# Altium schematic symbol library Cyberdeck.SchLib: 178 symbols (part 3 of 5)
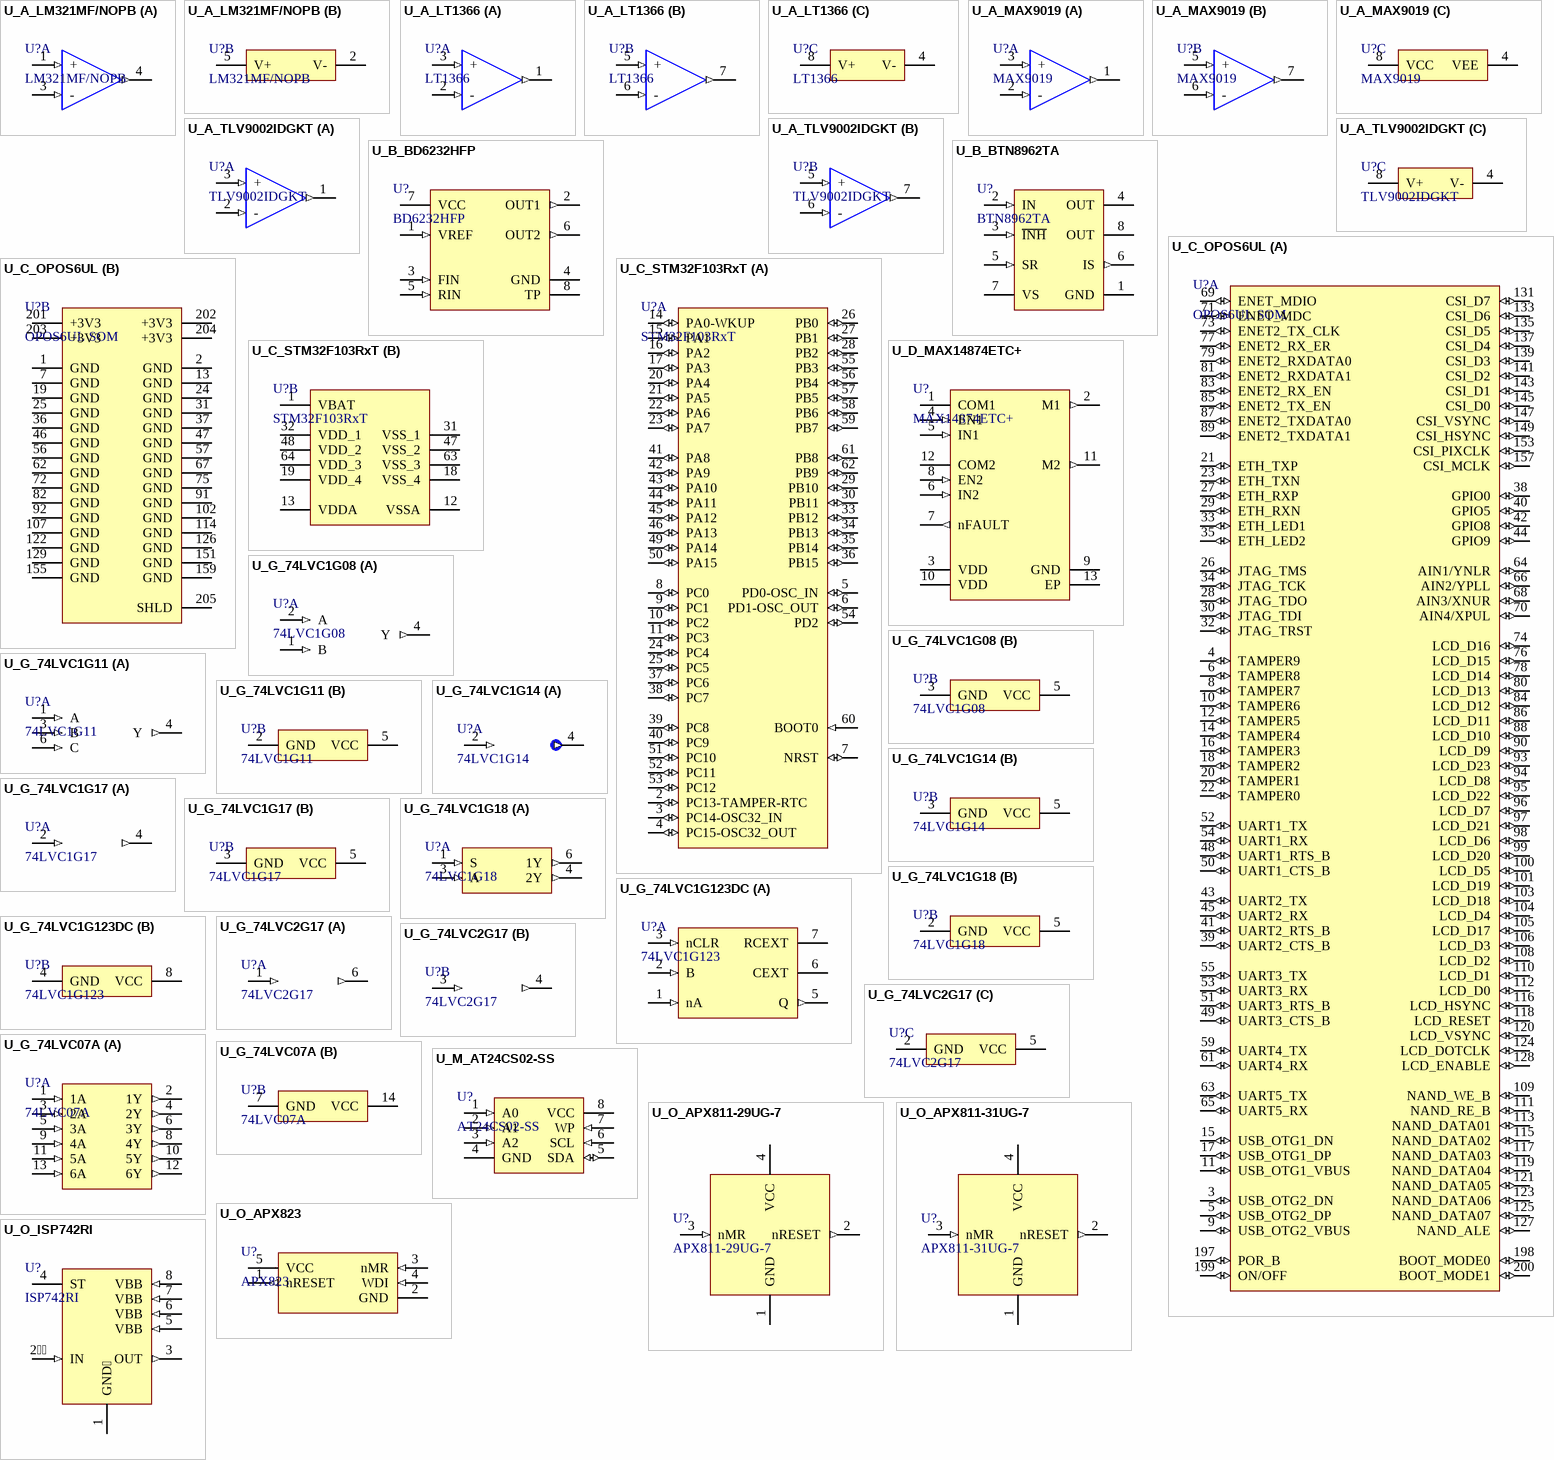
[diagram p7: symbols U_A_LM321MF/NOPB to U_O_ISP742RI]

## U_G_74LVC1G17
designator U?, comment 74LVC1G17
IC BUFFER SCHMITT TRIGGER 5TSOP; Manufacturer: NXP Semiconductors; Manufacturer Part Number: 74LVC2G17GW,125; ComponentLink1URL: https://datasheet.ciiva.com/17290/74lvc1g17-17290989.pdf; ComponentLink1Description: https://datasheet.ciiva.com/17290/74lvc1g17-17290989.pdf; ComponentLink2URL: https://datasheet.ciiva.com/6623/74lvc1g17-6623199.pdf; ComponentLink2Description: https://datasheet.ciiva.com/6623/74lvc1g17-6623199.pdf; ComponentLink3URL: https://datasheet.ciiva.com/1833/74lvc1g17-1833130.pdf; ComponentLink3Description: https://datasheet.ciiva.com/1833/74lvc1g17-1833130.pdf; ComponentLink4URL: https://datasheet.ciiva.com/1833/74lvc1g17-1833128.pdf; ComponentLink4Description: https://datasheet.ciiva.com/1833/74lvc1g17-1833128.pdf; ComponentLink5URL: https://datasheet.ciiva.com/1833/74lvc1g17-1833129.pdf; ComponentLink5Description: https://datasheet.ciiva.com/1833/74lvc1g17-1833129.pdf; Supplier 1: Digi-Key; Supplier Part Number 1: 1727-4218-1-ND; Case/Package: TSSOP; ComponentLink6URL: https://datasheet.ciiva.com/16463/74lvc2g17-16463432.pdf; ComponentLink6Description: https://datasheet.ciiva.com/16463/74lvc2g17-16463432.pdf; ComponentLink7URL: https://datasheet.ciiva.com/6623/74lvc2g17-6623158.pdf; ComponentLink7Description: https://datasheet.ciiva.com/6623/74lvc2g17-6623158.pdf; ComponentLink8URL: https://datasheet.ciiva.com/1832/74lvc2g17-1832730.pdf; ComponentLink8Description: https://datasheet.ciiva.com/1832/74lvc2g17-1832730.pdf; ComponentLink9URL: https://datasheet.ciiva.com/1832/74lvc2g17-1832731.pdf; ComponentLink9Description: https://datasheet.ciiva.com/1832/74lvc2g17-1832731.pdf; ComponentLink10URL: https://datasheet.ciiva.com/1832/74lvc2g17-1832732.pdf; ComponentLink10Description: https://datasheet.ciiva.com/1832/74lvc2g17-1832732.pdf; ComponentLink11URL: https://datasheet.ciiva.com/16199/74lvc2g17-16199742.pdf; ComponentLink11Description: https://datasheet.ciiva.com/16199/74lvc2g17-16199742.pdf
footprint SOT353-1
part A pins: 2 A (in), 4 Y (out)
part B pins: 3 GND (power), 5 VCC (power)

## U_G_74LVC1G18
designator U?, comment 74LVC1G18
IC DEMULTIPLEXER 3-ST 6TSOP; Manufacturer: NXP Semiconductors; Manufacturer Part Number: 74LVC1G18GV,125; Supplier 1: Digi-Key; Supplier Part Number 1: 1727-6972-1-ND; Case/Package: TSOP; ComponentLink1URL: https://datasheet.ciiva.com/4807/74lvc1g18-188390-4807217.pdf; ComponentLink1Description: https://datasheet.ciiva.com/4807/74lvc1g18-188390-4807217.pdf; ComponentLink2URL: https://datasheet.ciiva.com/46390/1841955-46390534.pdf; ComponentLink2Description: https://datasheet.ciiva.com/46390/1841955-46390534.pdf; ComponentLink3URL: https://datasheet.ciiva.com/1890/74lvc1g18-1890772.pdf; ComponentLink3Description: https://datasheet.ciiva.com/1890/74lvc1g18-1890772.pdf; ComponentLink4URL: https://datasheet.ciiva.com/1890/74lvc1g18-1890773.pdf; ComponentLink4Description: https://datasheet.ciiva.com/1890/74lvc1g18-1890773.pdf; ComponentLink5URL: https://datasheet.ciiva.com/1890/74lvc1g18-1890774.pdf; ComponentLink5Description: https://datasheet.ciiva.com/1890/74lvc1g18-1890774.pdf; ComponentLink6URL: https://datasheet.ciiva.com/8252/74lvc1g18-8252269.pdf; ComponentLink6Description: https://datasheet.ciiva.com/8252/74lvc1g18-8252269.pdf; ComponentLink7URL: https://datasheet.ciiva.com/17392/74lvc1g18-17392229.pdf; ComponentLink7Description: https://datasheet.ciiva.com/17392/74lvc1g18-17392229.pdf
footprint SOT457
part A pins: 1 S (in), 3 A (in), 4 2Y (out), 6 1Y (out)
part B pins: 2 GND (power), 5 VCC (power)

## U_G_74LVC1G123DC
designator U?, comment 74LVC1G123
Manufacturer: NXP Semiconductors; Manufacturer Part Number: 74LVC1G123DC,125; Supplier 1: Digi-Key; Supplier Part Number 1: 1727-2066-1-ND; Case/Package: VSSOP; ComponentLink1URL: https://datasheet.ciiva.com/4232/806074lvc1g123-4232470.pdf; ComponentLink1Description: https://datasheet.ciiva.com/4232/806074lvc1g123-4232470.pdf; ComponentLink2URL: https://datasheet.ciiva.com/8243/74lvc1g123-8243222.pdf; ComponentLink2Description: https://datasheet.ciiva.com/8243/74lvc1g123-8243222.pdf; ComponentLink3URL: https://datasheet.ciiva.com/46397/1846125-46397703.pdf; ComponentLink3Description: https://datasheet.ciiva.com/46397/1846125-46397703.pdf
footprint SOT765-1 (TSSOP, 8-Leads, Body 2.00x2.30mm, Pitch 0.50mm, IPC Medium Density)
part A pins: 1 nA (in), 2 B (in), 3 nCLR (in), 5 Q (out), 6 CEXT, 7 RCEXT
part B pins: 4 GND (power), 8 VCC (power)

## U_G_74LVC2G17
designator U?, comment 74LVC2G17
IC BUFF SCHMT TRG DL N-INV 6TSOP; Manufacturer: NXP Semiconductors; Manufacturer Part Number: 74LVC2G17GW,125; ComponentLink1URL: https://datasheet.ciiva.com/1837/74lvc2g17-1837122.pdf; ComponentLink1Description: https://datasheet.ciiva.com/1837/74lvc2g17-1837122.pdf; ComponentLink2URL: https://datasheet.ciiva.com/17291/74lvc2g17-17291020.pdf; ComponentLink2Description: https://datasheet.ciiva.com/17291/74lvc2g17-17291020.pdf; ComponentLink3URL: https://datasheet.ciiva.com/16289/74lvc2g17-16289887.pdf; ComponentLink3Description: https://datasheet.ciiva.com/16289/74lvc2g17-16289887.pdf; ComponentLink4URL: https://datasheet.ciiva.com/26930/getdatasheetpartid-214923-26930485.pdf; ComponentLink4Description: https://datasheet.ciiva.com/26930/getdatasheetpartid-214923-26930485.pdf; ComponentLink5URL: https://datasheet.ciiva.com/1837/74lvc2g17-1837123.pdf; ComponentLink5Description: https://datasheet.ciiva.com/1837/74lvc2g17-1837123.pdf; ComponentLink6URL: https://datasheet.ciiva.com/1837/74lvc2g17-1837124.pdf; ComponentLink6Description: https://datasheet.ciiva.com/1837/74lvc2g17-1837124.pdf; ComponentLink7URL: https://datasheet.ciiva.com/16463/74lvc2g17-16463432.pdf; ComponentLink7Description: https://datasheet.ciiva.com/16463/74lvc2g17-16463432.pdf; ComponentLink8URL: https://datasheet.ciiva.com/6623/74lvc2g17-6623158.pdf; ComponentLink8Description: https://datasheet.ciiva.com/6623/74lvc2g17-6623158.pdf; ComponentLink9URL: https://datasheet.ciiva.com/1832/74lvc2g17-1832730.pdf; ComponentLink9Description: https://datasheet.ciiva.com/1832/74lvc2g17-1832730.pdf; ComponentLink10URL: https://datasheet.ciiva.com/1832/74lvc2g17-1832731.pdf; ComponentLink10Description: https://datasheet.ciiva.com/1832/74lvc2g17-1832731.pdf; ComponentLink11URL: https://datasheet.ciiva.com/1832/74lvc2g17-1832732.pdf; ComponentLink11Description: https://datasheet.ciiva.com/1832/74lvc2g17-1832732.pdf; ComponentLink12URL: https://datasheet.ciiva.com/16199/74lvc2g17-16199742.pdf; ComponentLink12Description: https://datasheet.ciiva.com/16199/74lvc2g17-16199742.pdf; Supplier 1: Digi-Key; Supplier Part Number 1: 1727-4218-1-ND; Case/Package: TSSOP
footprint SOT363 (SOT23, 6-Leads, Body 2.05x2.13mm, Pitch 0.65mm, IPC Medium Density)
part A pins: 1 A (in), 6 1Y (out)
part B pins: 3 2A (in), 4 2Y (out)
part C pins: 2 GND (power), 5 VCC (power)

## U_G_74LVC07A
designator U?, comment 74LVC07A
IC HEX BUFFER OD 14TSSOP; Manufacturer: Diodes; Manufacturer Part Number: 74LVC07AT14-13; Supplier 1: Digi-Key; Supplier Part Number 1: 74LVC07AT14-13DICT-ND; Case/Package: TSSOP; ComponentLink1URL: https://datasheet.ciiva.com/30474/0900766b8115c2f6-30474846.pdf; ComponentLink1Description: https://datasheet.ciiva.com/30474/0900766b8115c2f6-30474846.pdf; ComponentLink2URL: https://datasheet.ciiva.com/1837/74lvc07a-1837131.pdf; ComponentLink2Description: https://datasheet.ciiva.com/1837/74lvc07a-1837131.pdf; ComponentLink3URL: https://datasheet.ciiva.com/16406/74lvc07a-16406619.pdf; ComponentLink3Description: https://datasheet.ciiva.com/16406/74lvc07a-16406619.pdf; ComponentLink4URL: https://datasheet.ciiva.com/1837/74lvc07a-1837132.pdf; ComponentLink4Description: https://datasheet.ciiva.com/1837/74lvc07a-1837132.pdf; ComponentLink5URL: https://datasheet.ciiva.com/1837/74lvc07a-1837133.pdf; ComponentLink5Description: https://datasheet.ciiva.com/1837/74lvc07a-1837133.pdf; ComponentLink6URL: https://datasheet.ciiva.com/8305/74lvc07a-8305743.pdf; ComponentLink6Description: https://datasheet.ciiva.com/8305/74lvc07a-8305743.pdf; ComponentLink7URL: https://datasheet.ciiva.com/12255/74lvc07a-12255247.pdf; ComponentLink7Description: https://datasheet.ciiva.com/12255/74lvc07a-12255247.pdf
footprint TSSOP-14 (TSOP, 14-Leads, Body 5.00x4.40mm, Pitch 0.65mm, IPC Medium Density)
part A pins: 1 1A (in), 2 1Y (out), 3 2A (in), 4 2Y (out), 5 3A (in), 6 3Y (out), 8 4Y (out), 9 4A (in), 10 5Y (out), 11 5A (in), 12 6Y (out), 13 6A (in)
part B pins: 7 GND (power), 14 VCC (power)

## U_M_AT24CS02-SS
designator U?, comment AT24CS02-SS
IC EEPROM 2KBIT 1MHZ 8SOIC; Manufacturer: Microchip / Atmel; Manufacturer Part Number: AT24CS02-SSHM-T; Supplier 1: Digi-Key; Supplier Part Number 1: AT24CS02-SSHM-TCT-ND; Case/Package: SOIC; ComponentLink1URL: https://datasheet.ciiva.com/15123/getdatasheetpartid-655244-15123992.pdf; ComponentLink1Description: https://datasheet.ciiva.com/15123/getdatasheetpartid-655244-15123992.pdf; ComponentLink2URL: https://datasheet.ciiva.com/6614/atmel-8815-seeprom-at24cs01-02-datasheet-6614647.pdf; ComponentLink2Description: https://datasheet.ciiva.com/6614/atmel-8815-seeprom-at24cs01-02-datasheet-6614647.pdf; ComponentLink3URL: https://datasheet.ciiva.com/6614/atmel-8815-seeprom-at24cs01-02-datasheet-6614649.pdf; ComponentLink3Description: https://datasheet.ciiva.com/6614/atmel-8815-seeprom-at24cs01-02-datasheet-6614649.pdf; ComponentLink4URL: https://datasheet.ciiva.com/6614/atmel-8815-seeprom-at24cs01-02-datasheet-6614651.pdf; ComponentLink4Description: https://datasheet.ciiva.com/6614/atmel-8815-seeprom-at24cs01-02-datasheet-6614651.pdf
footprint SO8 (SOIC8, SO8, PG-DSO8-44, R-PDSO8-G8)
pins: 1 A0 (in), 2 A1 (in), 3 A2 (in), 4 GND (power), 5 SDA (io), 6 SCL (in), 7 WP (in), 8 VCC (power)

## U_O_APX811-29UG-7
designator U?, comment APX811-29UG-7
IC SUPERVISOR 2.93V SOT143-4; Manufacturer: Diodes; Max Supply Voltage: 5.5V; Min Supply Voltage: 1.1V; Max Power Dissipation: 320mW; Watchdog Timer: No; Max Reset Threshold Voltage: 2.98V; Min Reset Threshold Voltage: 2.89V; Number of Voltages Monitored: 1; Reset: Active Low; Reset Timeout: 140ms; Undervoltage Threshold: 4.7V; Operating Supply Current: 30uA; Reset Delay Time: 200ms; Supplier 1: Digi-Key; Supplier Part Number 1: APX811-29UG-7DICT-ND; Manufacturer Part Number: APX811-29UG-7; Stock 1: 2017; Pricing 1: 1=0.41, 10=0.348, 100=0.2596, 500=0.20394, 1000=0.15759 (USD); Mount: Surface Mount; Case/Package: SOT-143; Number of Pins: 4; Min Operating Temperature: -40°C; Max Operating Temperature: 85°C; Package Quantity: 3000; Packaging: Tape and Reel; Type: Simple Reset/Power-On Reset; Threshold Voltage: 2.93V; Number of Elements: 1; Power Dissipation: 320mW; Number of Monitored Inputs: 1; Length: 3mm; Height: 1mm; Width: 1.4mm; Radiation Hardening: No; REACH SVHC: No SVHC; Lead Free: Lead Free; ComponentLink1URL: https://datasheet.ciiva.com/15106/getdatasheetpartid-363215-15106144.pdf; ComponentLink1Description: https://datasheet.ciiva.com/15106/getdatasheetpartid-363215-15106144.pdf; ComponentLink2URL: https://datasheet.ciiva.com/1968/apx811-812-1968427.pdf; ComponentLink2Description: https://datasheet.ciiva.com/1968/apx811-812-1968427.pdf; ComponentLink3URL: https://datasheet.ciiva.com/1968/apx811-812-1968428.pdf; ComponentLink3Description: https://datasheet.ciiva.com/1968/apx811-812-1968428.pdf; ComponentLink4URL: https://datasheet.ciiva.com/17224/apx811-812-17224732.pdf; ComponentLink4Description: https://datasheet.ciiva.com/17224/apx811-812-17224732.pdf; ComponentLink5URL: https://datasheet.ciiva.com/1968/apx811-812-1968429.pdf; ComponentLink5Description: https://datasheet.ciiva.com/1968/apx811-812-1968429.pdf
footprint APX811/812 (SOT143, 4-Leads, Body 2.90x2.37mm, Pitch 1.90mm, IPC Medium Density)
pins: 1 GND (power), 2 nRESET (out), 3 nMR (in), 4 VCC (power)

## U_O_APX811-31UG-7
designator U?, comment APX811-31UG-7
IC SUPERVISOR 3.13V SOT143-4; Manufacturer: Diodes; Supplier 1: Digi-Key; Supplier Part Number 1: APX811-31UG-7DICT-ND; Manufacturer Part Number: APX811-31UG-7; Case/Package: SOT-143; ComponentLink1URL: https://datasheet.ciiva.com/15106/getdatasheetpartid-661729-15106637.pdf; ComponentLink1Description: https://datasheet.ciiva.com/15106/getdatasheetpartid-661729-15106637.pdf; ComponentLink2URL: https://datasheet.ciiva.com/17224/apx811-812-17224734.pdf; ComponentLink2Description: https://datasheet.ciiva.com/17224/apx811-812-17224734.pdf
footprint APX811/812 (SOT143, 4-Leads, Body 2.90x2.37mm, Pitch 1.90mm, IPC Medium Density)
pins: 1 GND (power), 2 nRESET (out), 3 nMR (in), 4 VCC (power)

## U_O_APX823
designator U?, comment APX823
Processor Supervisor 3.08V 0V to 5.8V 5-Pin SOT-25 T/R; Manufacturer 1: Diodes; Manufacturer Part Number 1: APX823-31W5G-7; Supplier 1: Digi-Key; Supplier Part Number 1: APX823-31W5GDICT-ND; Case/Package: SOT-25; ComponentLink1URL: https://datasheet.ciiva.com/15106/getdatasheetpartid-685370-15106671.pdf; ComponentLink1Description: https://datasheet.ciiva.com/15106/getdatasheetpartid-685370-15106671.pdf; ComponentLink2URL: https://datasheet.ciiva.com/26886/apx823-31w5g-7-26886348.pdf; ComponentLink2Description: https://datasheet.ciiva.com/26886/apx823-31w5g-7-26886348.pdf
footprint SOT-23-5
pins: 1 nRESET (out), 2 GND (power), 3 nMR (in), 4 WDI (in), 5 VCC (power)

## U_O_ISP742RI
designator U?, comment ISP742RI
Power Switch Hi Side 0.4A 8-Pin DSO; Manufacturer 1: Infineon; Manufacturer Part Number 1: ISP742RIFUMA1; Supplier 1: Digi-Key; Supplier Part Number 1: ISP742RIFUMA1CT-ND; ComponentLink1URL: http://components.arrow.com/part/dataview/52120040S9006902N2051; ComponentLink1Description: http://components.arrow.com/part/dataview/52120040S9006902N2051; ComponentLink2URL: http://components.arrow.com/part/dataview/0323_00171198; ComponentLink2Description: http://components.arrow.com/part/dataview/0323_00171198; ComponentLink3URL: http://www.mouser.com/ds/2/196/Infineon-ISP742RI-DS-v01_01-en-785766.pdf; ComponentLink3Description: http://www.mouser.com/ds/2/196/Infineon-ISP742RI-DS-v01_01-en-785766.pdf; ComponentLink4URL: http://www.infineon.com/dgdl/Infineon-ISP742RI-DS-v01_01-en.pdf?fileId=db3a304412b407950112b429555440bf&ack=t; ComponentLink4Description: http://www.infineon.com/dgdl/Infineon-ISP742RI-DS-v01_01-en.pdf?fileId=db3a304412b407950112b429555440bf&ack=t
footprint PG-DSO-8-24
footprint SO8 (SOIC, 8-Leads, Body 4.90x3.90mm, Pitch 1.27mm, IPC Medium Density)
pins: 1 GND (power), 2 IN (in), 3 OUT (out), 4 ST, 5 VBB (in), 6 VBB (in), 7 VBB (in), 8 VBB (in)

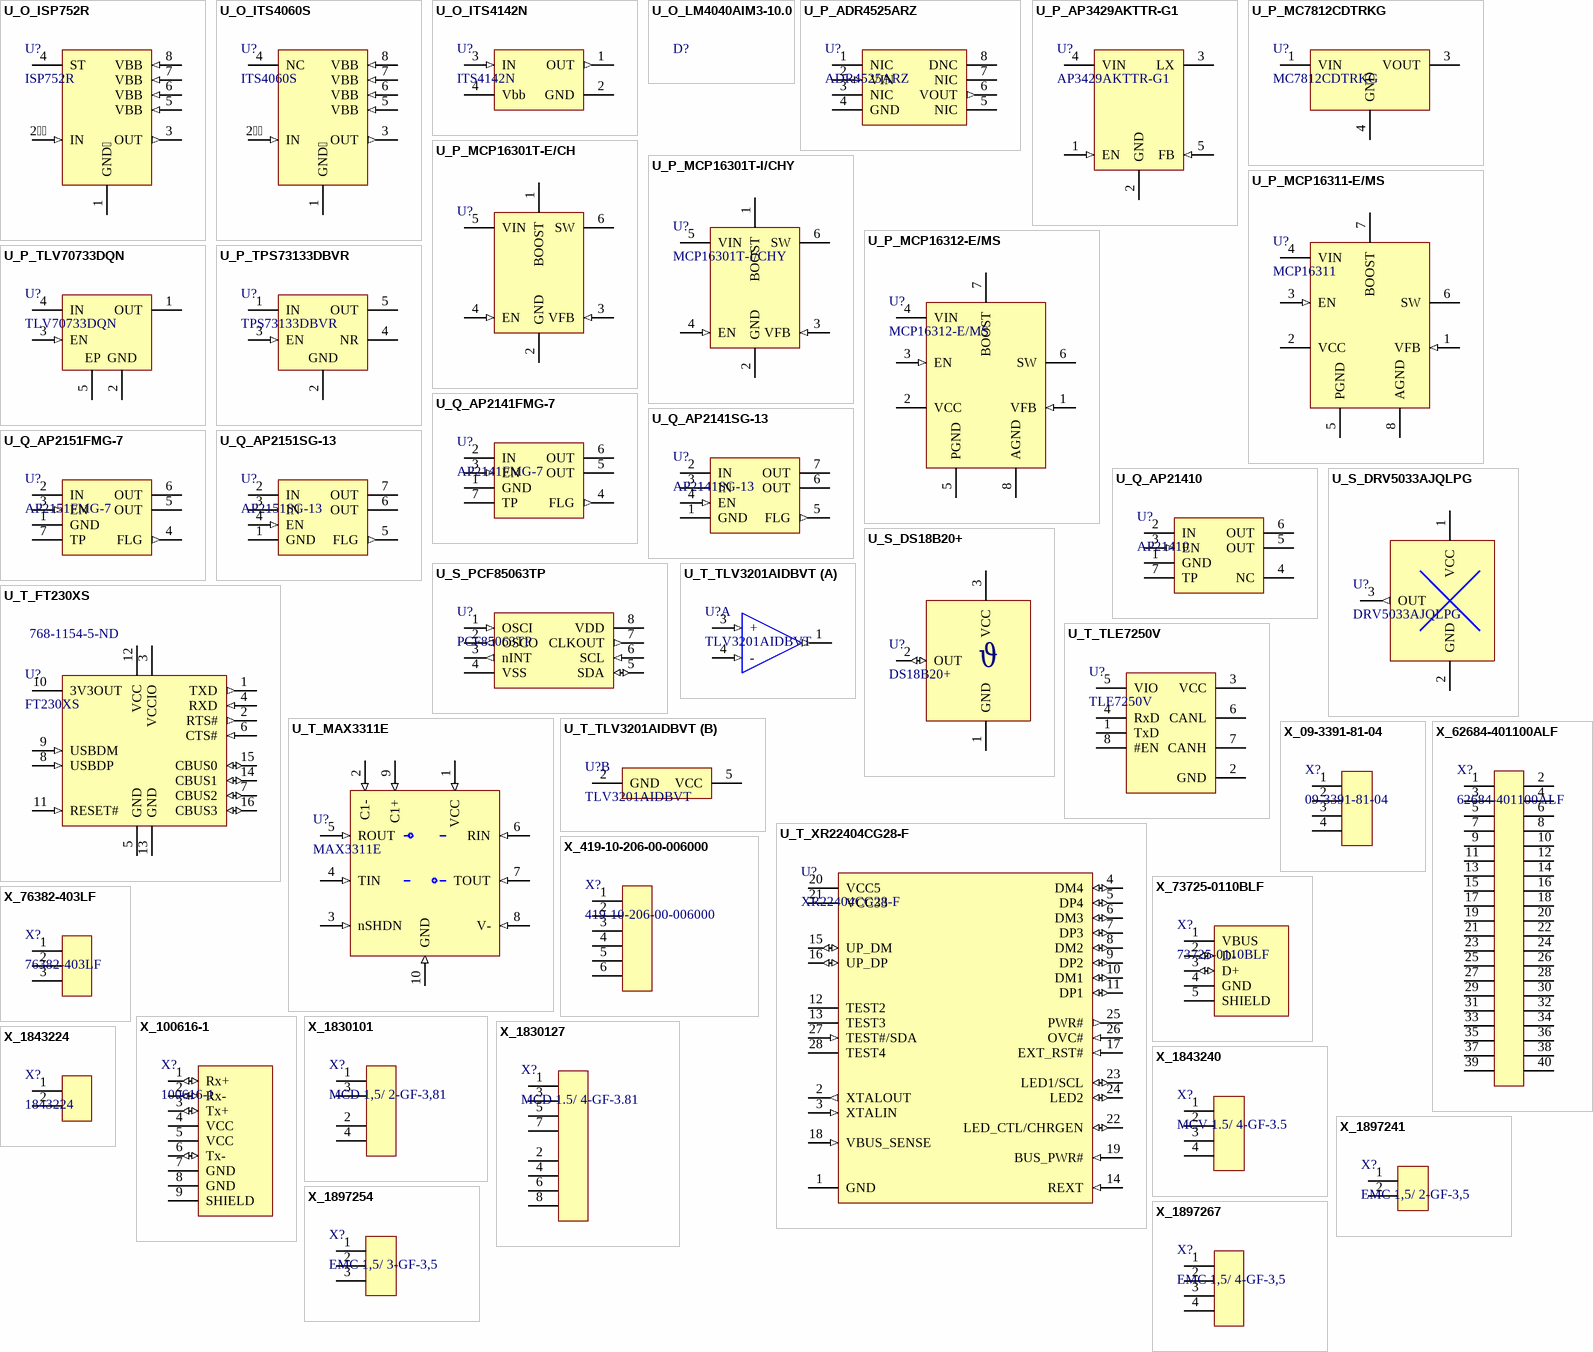
[diagram p3: symbols U_O_ISP752R to X_1897267]

## U_O_ISP752R
designator U?, comment ISP752R
Power Switch Hi Side 1.3A 8-Pin DSO; Manufacturer 1: Infineon; Manufacturer Part Number 1: ISP752RFUMA1; Supplier 1: Digi-Key; Supplier Part Number 1: ISP752RFUMA1CT-ND; ComponentLink1URL: http://components.arrow.com/part/dataview/0323_00171199; ComponentLink1Description: http://components.arrow.com/part/dataview/0323_00171199; ComponentLink2URL: http://www.mouser.com/ds/2/196/Infineon-ISP752R-DS-v01_01-en-785748.pdf; ComponentLink2Description: http://www.mouser.com/ds/2/196/Infineon-ISP752R-DS-v01_01-en-785748.pdf; ComponentLink3URL: https://www.infineon.com/dgdl/Infineon-ISP752R-DS-v01_01-en.pdf?folderId=db3a304412b407950112b408e8c90004&fileId=db3a304412b407950112b4295d1040cb&ack=t; ComponentLink3Description: https://www.infineon.com/dgdl/Infineon-ISP752R-DS-v01_01-en.pdf?folderId=db3a304412b407950112b408e8c90004&fileId=db3a304412b407950112b4295d1040cb&ack=t; ComponentLink4URL: http://www.infineon.com/dgdl/Infineon-ISP752R-DS-v01_01-en.pdf?fileId=db3a304412b407950112b4295d1040cb&ack=t; ComponentLink4Description: http://www.infineon.com/dgdl/Infineon-ISP752R-DS-v01_01-en.pdf?fileId=db3a304412b407950112b4295d1040cb&ack=t
footprint PG-DSO-8-24
footprint SO8 (SOIC, 8-Leads, Body 4.90x3.90mm, Pitch 1.27mm, IPC Medium Density)
pins: 1 GND (power), 2 IN (in), 3 OUT (out), 4 ST, 5 VBB (in), 6 VBB (in), 7 VBB (in), 8 VBB (in)

## U_O_ITS4060S
designator U?, comment ITS4060S
Power Switch Hi Side 2.6A 8-Pin DSO T/R; Manufacturer 1: Infineon; Manufacturer Part Number 1: ITS4060SSJNXUMA1; Supplier 1: Digi-Key; Supplier Part Number 1: ITS4060SSJNXUMA1CT-ND; Case/Package: SOIC; ComponentLink1URL: http://www.mouser.com/ds/2/196/Infineon-ITS4060S_SJ_N_01092012S-DS-v01_00-en-785694.pdf; ComponentLink1Description: http://www.mouser.com/ds/2/196/Infineon-ITS4060S_SJ_N_01092012S-DS-v01_00-en-785694.pdf; ComponentLink2URL: http://www.infineon.com/dgdl/Infineon-ITS4060S_SJ_N_01092012S-DS-v01_00-en.pdf?fileId=db3a304339dcf4b1013a0137d230573b&sd=t; ComponentLink2Description: http://www.infineon.com/dgdl/Infineon-ITS4060S_SJ_N_01092012S-DS-v01_00-en.pdf?fileId=db3a304339dcf4b1013a0137d230573b&sd=t
footprint PG-DSO-8-24
footprint SO8 (SOIC, 8-Leads, Body 4.90x3.90mm, Pitch 1.27mm, IPC Medium Density)
pins: 1 GND (power), 2 IN (in), 3 OUT (out), 4 NC, 5 VBB (in), 6 VBB (in), 7 VBB (in), 8 VBB (in)

## U_O_ITS4142N
designator U?, comment ITS4142N
Power Switch Hi Side 1.4A 4-Pin(3+Tab) SOT-223; Manufacturer 1: Infineon; Manufacturer Part Number 1: ITS4142NHUMA1; Supplier 1: Digi-Key; Supplier Part Number 1: ITS4142NHUMA1CT-ND; Case/Package: SOT-223; ComponentLink1URL: https://datasheet.ciiva.com/26851/getdatasheetpartid-730739-26851660.pdf; ComponentLink1Description: https://datasheet.ciiva.com/26851/getdatasheetpartid-730739-26851660.pdf
footprint SOT223 (SOT223, 4-Leads, Body 6.50x7.00mm (avg), Pitch 2.30mm, IPC Medium Density)
pins: 1 OUT (out), 2 GND (power), 3 IN (in), 4 Vbb (power)

## U_O_LM4040AIM3-10.0
designator D?, comment LM4040AIM3-10.0  (value not drawn)
IC VREF SHUNT 10V SOT23-3; Manufacturer 1: TI National Semiconductor; Max DC Current: 620mA; Supplier 1: Digi-Key; Supplier Part Number 1: LM4040AIM3-10.0CT-ND; Manufacturer Part Number 1: LM4040AIM3-10.0; Case/Package: SOT-23; ComponentLink1URL: https://datasheet.ciiva.com/15148/getdatasheetpartid-132462-15148708.pdf; ComponentLink1Description: https://datasheet.ciiva.com/15148/getdatasheetpartid-132462-15148708.pdf; ComponentLink2URL: https://datasheet.ciiva.com/8060/8006-8060198.pdf; ComponentLink2Description: https://datasheet.ciiva.com/8060/8006-8060198.pdf; ComponentLink3URL: https://datasheet.ciiva.com/14198/lm4040-n-q1-14198668.pdf; ComponentLink3Description: https://datasheet.ciiva.com/14198/lm4040-n-q1-14198668.pdf; ComponentLink4URL: https://datasheet.ciiva.com/6593/lm4040-n-6593493.pdf; ComponentLink4Description: https://datasheet.ciiva.com/6593/lm4040-n-6593493.pdf; ComponentLink5URL: https://datasheet.ciiva.com/6593/lm4040-n-6593494.pdf; ComponentLink5Description: https://datasheet.ciiva.com/6593/lm4040-n-6593494.pdf
footprint SOT-23 (SOT23, 3-Leads, Body 2.90x2.45mm, Pitch 0.95mm, IPC Medium Density)

## U_P_ADR4525ARZ
designator U?, comment ADR4525ARZ
V REF, 15VIN, 2.5V, +/-0.04%, 8SOIC; Manufacturer: Analog Devices; Max Input Voltage: 15V; Max Output Current: 10mA; Temperature Coefficient: 4ppm/°C; Nominal Supply Current: 950uA; Tolerance: 0.04%; Min Input Voltage: 3V; Reference Type: Series; Output Type: Fixed; Supplier 1: Digi-Key; Supplier Part Number 1: ADR4525ARZ-ND; Manufacturer Part Number: ADR4525ARZ; RoHS: Yes; Stock 1: 11633; Pricing 1: 1 = 6.49000, 98 = 5.51255, 196 = 4.77750, 588 = 4.06701, 1078 = 3.43000 (USD); Case/Package: R; Number of Pins: 8; Min Operating Temperature: -40°C; Max Operating Temperature: 125°C; Output Voltage: 2.5V; Package Quantity: 98; Packaging: Rail/Tube; Operating Supply Current: 950uA; Min Output Voltage: 2.5V; Output Current: 10mA; Reference Voltage: 2.5V; Max Output Voltage: 2.5V; Length: 5mm; Height: 1.5mm; Width: 4mm; Radiation Hardening: No; REACH SVHC: No SVHC; Lead Free: Contains Lead; ComponentLink1URL: http://www.farnell.com/datasheets/1599556.pdf; ComponentLink1Description: http://www.farnell.com/datasheets/1599556.pdf; ComponentLink2URL: http://www.analog.com/static/imported-files/data_sheets/ADR4520_4525_4530_4533_4540_4550.pdf; ComponentLink2Description: http://www.analog.com/static/imported-files/data_sheets/ADR4520_4525_4530_4533_4540_4550.pdf; ComponentLink3URL: https://www.analog.com/media/en/technical-documentation/data-sheets/ADR4520_4525_4530_4533_4540_4550.pdf; ComponentLink3Description: https://www.analog.com/media/en/technical-documentation/data-sheets/ADR4520_4525_4530_4533_4540_4550.pdf; ComponentLink4URL: http://www.produktinfo.conrad.com/datenblaetter/1200000-1299999/001250885-da-01-en-IC_VREF_SERIES_PRE_ADR4525ARZ_SOIC_8_ADI.pdf; ComponentLink4Description: http://www.produktinfo.conrad.com/datenblaetter/1200000-1299999/001250885-da-01-en-IC_VREF_SERIES_PRE_ADR4525ARZ_SOIC_8_ADI.pdf
footprint SO8 (SOIC8, SO8, PG-DSO8-44, R-PDSO8-G8)
pins: 1 NIC, 2 VIN (in), 3 NIC, 4 GND (power), 5 NIC, 6 VOUT (out), 7 NIC, 8 DNC

## U_P_AP3429AKTTR-G1
designator U?, comment AP3429AKTTR-G1
Buck Switching Regulator IC Positive Adjustable 0.6V 1 Output 2A SOT-23-5 Thin, TSOT-23-5; Manufacturer: Diodes; Supplier 1: Digi-Key; Supplier Part Number 1: AP3429AKTTR-G1DICT-ND; Manufacturer Part Number: AP3429AKTTR-G1; ComponentLink1Description: https://www.diodes.com/assets/Datasheets/AP3429.pdf; ComponentLink1URL: https://www.diodes.com/assets/Datasheets/AP3429.pdf
footprint SOT23-5L (SOT23-5L ST)
footprint SOT-23-5
pins: 1 EN (in), 2 GND (power), 3 LX (power), 4 VIN (power), 5 FB (in)

## U_P_MC7812CDTRKG
designator U?, comment MC7812CDTRKG
IC REG LDO 12V 1A DPAK; Manufacturer: ON Semiconductor; Supplier 1: Digi-Key; Supplier Part Number 1: MC7812CDTRKGOSCT-ND; Case/Package: TO-252-3; ComponentLink1URL: https://datasheet.ciiva.com/2060/mc7800-d-2060457.pdf; ComponentLink1Description: https://datasheet.ciiva.com/2060/mc7800-d-2060457.pdf; ComponentLink2URL: https://datasheet.ciiva.com/26179/mc7800-d-26179659.pdf; ComponentLink2Description: https://datasheet.ciiva.com/26179/mc7800-d-26179659.pdf; ComponentLink3URL: https://datasheet.ciiva.com/2060/mc7800-d-2060456.pdf; ComponentLink3Description: https://datasheet.ciiva.com/2060/mc7800-d-2060456.pdf; ComponentLink4URL: https://datasheet.ciiva.com/8230/mc7800-d-8230645.pdf; ComponentLink4Description: https://datasheet.ciiva.com/8230/mc7800-d-8230645.pdf; ComponentLink5URL: https://datasheet.ciiva.com/2060/mc7800-d-2060455.pdf; ComponentLink5Description: https://datasheet.ciiva.com/2060/mc7800-d-2060455.pdf
footprint TO228P970-3N (DPAK-3  CASE 369C OnSemi)
pins: 1 VIN (power), 3 VOUT (power), 4 GND (power)

## U_P_MCP16301T-E/CH
designator U?, comment MCP16301T-E/CH  (value not drawn)
High-Voltage Input Integrated Switch Step-Down Regulator, 600 mA, Input Voltage 4.0 to 30 V, Output Voltage 2.0 to 15 V, -40 to 125 degC, 6-pin SOT-23 (CH6), Tape and Reel; Manufacturer 1: Microchip; Supplier 1: Digi-Key; Supplier Part Number 1: MCP16301T-E/CH-ND; Manufacturer Part Number 1: MCP16301T-E/CH; ComponentLink1Description: Manufacturer URL; ComponentLink1URL: http://www.microchip.com; ComponentLink2Description: Datasheet; ComponentLink2URL: http://ww1.microchip.com/downloads/en/DeviceDoc/25004B.pdf; ComponentLink3Description: Package Specification; ComponentLink3URL: http://www.microchip.com/stellent/groups/techpub_sg/documents/packagingspec/en012702.pdf; ComponentLink4Description: Product URL; ComponentLink4URL: http://www.microchip.com/MCP16301
footprint MCHP-SOT-23-CH6_N (SOT23, 6-Leads, Body 2.9x1.55mm, Pitch 0.95mm, IPC Medium Density)
footprint MCHP-SOT-23-CH6_L (SOT23, 6-Leads, Body 2.9x1.55mm, Pitch 0.95mm, IPC High Density)
footprint MCHP-SOT-23-CH6_M (SOT23, 6-Leads, Body 2.9x1.55mm, Pitch 0.95mm, IPC Low Density)
pins: 1 BOOST (power) "Boost voltage that drives the internal NMOS control switch. A bootstrap capacitor is connected between the BOOST and SW pins.", 2 GND (power) "Ground Pin", 3 VFB (in) "Output voltage feedback pin. Connect VFB to an external resistor divider to set the output voltage.", 4 EN (in) "Enable pin. Logic high enables the operation. Do not allow this pin to float", 5 VIN (power) "Input supply voltage pin for power and internal biasing.", 6 SW (power) "Output switch node, connects to the inductor, freewheeling diode and the bootstrap capacitor."

## U_P_MCP16301T-I/CHY
designator U?, comment MCP16301T-I/CHY
High-Voltage Input Integrated Switch Step-Down Regulator, 600 mA, Input Voltage 4.0 to 30 V, Output Voltage 2.0 to 15 V, -40 to 85 degC, 6-pin SOT-23 (CHY6), Tape and Reel; Manufacturer 1: Microchip; Manufacturer Part Number: MCP16312-E/MS; Number of Outputs: 1; Min Input Voltage: 4.4V; Max Input Voltage: 30V; Min Output Voltage: 2V; Max Output Voltage: 24V; Output Current: 1A; Switching Frequency: 500kHz; Synchronous Rectifier: Yes; Efficiency: 95%; Supplier 1: Digi-Key; Supplier Part Number 1: MCP16301T-I/CHYCT-ND; Manufacturer Part Number 1: MCP16301T-I/CHY; ComponentLink1Description: Manufacturer URL; ComponentLink1URL: http://www.microchip.com; ComponentLink2Description: Datasheet; ComponentLink2URL: http://ww1.microchip.com/downloads/en/DeviceDoc/25004B.pdf; ComponentLink3Description: Package Specification; ComponentLink3URL: http://www.microchip.com/stellent/groups/techpub_sg/documents/packagingspec/en012702.pdf; ComponentLink4Description: Product URL; ComponentLink4URL: http://www.microchip.com/MCP16301; Supplier 2: Digi-Key; Supplier Part Number 2: MCP16312-E/MS-ND; Manufacturer: Microchip; Stock 2: 1607; Pricing 2: 1=1.25, 25=1.0404, 100=0.9476 (USD); Mount: Surface Mount; Case/Package: MSOP; Number of Pins: 8; Weight: 0.004938oz; Min Operating Temperature: -40°C; Max Operating Temperature: 125°C; Package Quantity: 100; Packaging: Rail/Tube; Max Output Current: 1A; Output Voltage: 24V; Min Supply Voltage: 4.4V; Length: 3mm; Height: 0.95mm; Width: 3mm; REACH SVHC: No SVHC; ComponentLink5URL: https://datasheet.ciiva.com/46405/1810475-46405981.pdf; ComponentLink5Description: https://datasheet.ciiva.com/46405/1810475-46405981.pdf
footprint MCHP-SOT-23-CHY6_N (SOT23, 6-Leads, Body 2.9x1.55mm, Pitch 0.95mm, IPC Medium Density)
footprint MCHP-SOT-23-CHY6_L (Footprint not found)
footprint MCHP-SOT-23-CHY6_M (SOT23, 6-Leads, Body 2.9x1.55mm, Pitch 0.95mm, IPC Low Density)
pins: 1 BOOST (power) "Boost voltage that drives the internal NMOS control switch. A bootstrap capacitor is connected between the BOOST and SW pins.", 2 GND (power) "Ground Pin", 3 VFB (in) "Output voltage feedback pin. Connect VFB to an external resistor divider to set the output voltage.", 4 EN (in) "Enable pin. Logic high enables the operation. Do not allow this pin to float", 5 VIN (power) "Input supply voltage pin for power and internal biasing.", 6 SW (power) "Output switch node, connects to the inductor, freewheeling diode and the bootstrap capacitor."

## U_P_MCP16311-E/MS
designator U?, comment MCP16311
DC-DC Switching Buck Step Down Regulator, Adjustable, 4.4V-30Vin, 2V-24Vout, 1Aout, MSOP-8; Manufacturer 1: Microchip; Manufacturer Part Number 1: MCP16311-E/MS; Supplier 1: Digi-Key; Supplier Part Number 1: MCP16311-E/MS-ND; Case/Package: MSOP; ComponentLink1URL: https://datasheet.ciiva.com/46405/1810475-46405980.pdf; ComponentLink1Description: https://datasheet.ciiva.com/46405/1810475-46405980.pdf
footprint MSOP8
pins: 1 VFB (in) "Output voltage feedback pin. Connect VFB to an external resistor divider to set the output voltage.", 2 VCC (power) "Input supply voltage pin for power and internal biasing.", 3 EN (in) "Enable pin. Logic high enables the operation. Do not allow this pin to float", 4 VIN (power) "Input supply voltage pin for power and internal biasing.", 5 PGND (power) "Ground Pin", 6 SW (power) "Output switch node, connects to the inductor, freewheeling diode and the bootstrap capacitor.", 7 BOOST (power) "Boost voltage that drives the internal NMOS control switch. A bootstrap capacitor is connected between the BOOST and SW pins.", 8 AGND (power) "Ground Pin"

## U_P_MCP16312-E/MS
designator U?, comment MCP16312-E/MS
DC-DC Switching Buck Step Down Regulator, Adjustable, 4.4V-30Vin, 2V-24Vout, 1Aout, MSOP-8; Manufacturer: Microchip; ComponentLink1Description: https://datasheet.ciiva.com/46405/1810475-46405980.pdf; ComponentLink1URL: https://datasheet.ciiva.com/46405/1810475-46405980.pdf; Supplier 1: Digi-Key; Supplier Part Number 1: MCP16312-E/MS-ND; Manufacturer Part Number: MCP16312-E/MS; Case/Package: MSOP; ComponentLink2URL: https://datasheet.ciiva.com/46405/1810475-46405981.pdf; ComponentLink2Description: https://datasheet.ciiva.com/46405/1810475-46405981.pdf
footprint MSOP8 (S-PDSO-G8, DGK,)
pins: 1 VFB (in) "Output voltage feedback pin. Connect VFB to an external resistor divider to set the output voltage.", 2 VCC (power) "Input supply voltage pin for power and internal biasing.", 3 EN (in) "Enable pin. Logic high enables the operation. Do not allow this pin to float", 4 VIN (power) "Input supply voltage pin for power and internal biasing.", 5 PGND (power) "Ground Pin", 6 SW (power) "Output switch node, connects to the inductor, freewheeling diode and the bootstrap capacitor.", 7 BOOST (power) "Boost voltage that drives the internal NMOS control switch. A bootstrap capacitor is connected between the BOOST and SW pins.", 8 AGND (power) "Ground Pin"

## U_P_TLV70733DQN
designator U?, comment TLV70733DQN
Single Output Low Noise LDO, 200 mA, Fixed 3.3 V Output, 2 to 5.5 V Input, 4-pin X2SON(DQN), -40 to 85 degC, Green (RoHS & no Sb/Br); Manufacturer 1: Texas Instruments; Manufacturer Part Number 1: TLV70733DQNR; Accuracy(%): 1.5; Fixed Output Options(V): 3.3; Iout(Max)(A): 0.2; Iq(Typ)(mA): 0.02; SubFamily: Single Channel LDO; Vdo(Typ)(mV): 250; Vin(Max)(V): 5.5; Vin(Min)(V): 2; DatasheetVersion: SBVS153C; PackageVersion: 4210367/D; PackageReference: DQN4-480X480TP; PackageDescription: 4-Pin Plastic Small Outline, Body 1 x 1 mm, Pitch 0.65 mm; Supplier 1: Digi-Key; Supplier Part Number 1: TLV70733DQNR-ND; Supplier 2: Newark; Supplier Part Number 2: 53W1911; Supplier 3: Mouser; Supplier Part Number 3: 595-TLV70733DQNR; Eco-Plan: Green (RoHS & no Sb/Br); Vout Adj(Max)(V): 3.3; Vout Adj(Min)(V): 3.3; Mounting Technology: Surface Mount; ComponentLink1Description: Manufacturer URL; ComponentLink1URL: http://www.ti.com/; ComponentLink2Description: Datasheet; ComponentLink2URL: http://www.ti.com/general/docs/lit/getliterature.tsp?genericPartNumber=TLV70733&fileType=pdf; Supplier 4: Digi-Key; Supplier Part Number 4: 296-39290-1-ND
footprint TI-DQN4-480X480TP_V (SON, 4-Leads, Body 1x1mm, Pitch 0.65mm, Thermal Pad 0.5x0.5mm)
pins: 1 OUT (power) "Regulated output voltage pin. A small 1 uF ceramic capacitor is needed from this pin to ground to assure stability.", 2 GND (power) "Ground pin", 3 EN (in) "Enable pin. Driving EN over 0.9 V turns on the regulator. Driving EN below 0.4 V puts the regulator into shutdown mode For TLV707xxP, output voltage is discharged through an internal 120-ohm resistor when device is shut down.", 4 IN (power) "Input pin. A small 1uF ceramic capacitor is recommended from this pin to ground for good transient performance.", 5 EP "Exposed thermal pad"

## U_P_TPS73133DBVR
designator U?, comment TPS73133DBVR
Single Output Fast Transient Response LDO, 150 mA, Fixed 3.3 V Output, 1.7 to 5.5 V Input, 5-pin SOT-23 (DBV), -40 to 85 degC, Green (RoHS & no Sb/Br); Manufacturer 1: Texas Instruments; Supplier 1: Digi-Key; Supplier Part Number 1: 296-32553-1-ND; Manufacturer Part Number 1: TPS73133DBVR; ComponentLink1Description: Manufacturer URL; ComponentLink1URL: http://www.ti.com/; ComponentLink2Description: Datasheet; ComponentLink2URL: http://www.ti.com/general/docs/lit/getliterature.tsp?genericPartNumber=TPS73133&fileType=pdf; ComponentLink3Description: Package Specification; ComponentLink3URL: http://www.ti.com/litv/pdf/mpds018i
footprint TI-DBV5_N (SOT23, 5-Leads, Body 2.9x1.6mm, Pitch 0.95mm, IPC Medium Density)
footprint TI-DBV5_L (SOT23, 5-Leads, Body 2.9x1.6mm, Pitch 0.95mm, IPC High Density)
footprint TI-DBV5_M (SOT23, 5-Leads, Body 2.9x1.6mm, Pitch 0.95mm, IPC Low Density)
pins: 1 IN (power) "Input supply.", 2 GND (power) "Ground.", 3 EN (in) "Driving the enable pin (EN) high turns on the regulator .Driving this pin low puts the regulator into shutdown mode.EN can be connected to IN if not used.", 4 NR "Fixed voltage versions only; connecting an external capacitor to this pin bypasses noise generated by the internal bandgap. This capacitor allows output noise to be reduced to very low levels.", 5 OUT (power) "Output for the regulator. A small capacitor (total typical capacitance >= 2.0uF ceramic) is needed from this pin to ground to assure stability."

## U_Q_AP2141FMG-7
designator U?, comment AP2141FMG-7
0.5A SINGLE CHANNEL CURRENT-LIMITED POWERSWITCH 6-Pin DFN EP T/R; Manufacturer: Diodes; ComponentLink1URL: https://datasheet.ciiva.com/15108/getdatasheetpartid-661768-15108858.pdf; ComponentLink1Description: https://datasheet.ciiva.com/15108/getdatasheetpartid-661768-15108858.pdf; ComponentLink2URL: https://datasheet.ciiva.com/26882/ap2141fmg-7-26882490.pdf; ComponentLink2Description: https://datasheet.ciiva.com/26882/ap2141fmg-7-26882490.pdf; ComponentLink3URL: https://datasheet.ciiva.com/1962/ap2141-51-1962188.pdf; ComponentLink3Description: https://datasheet.ciiva.com/1962/ap2141-51-1962188.pdf; ComponentLink4URL: https://datasheet.ciiva.com/1962/ap2141-51-1962189.pdf; ComponentLink4Description: https://datasheet.ciiva.com/1962/ap2141-51-1962189.pdf; ComponentLink5URL: https://datasheet.ciiva.com/1962/ap2141-51-1962190.pdf; ComponentLink5Description: https://datasheet.ciiva.com/1962/ap2141-51-1962190.pdf; Supplier 1: Digi-Key; Supplier Part Number 1: AP2141FMG-7DICT-ND; Manufacturer Part Number: AP2141FMG-7
footprint U-DFN2018-6
pins: 1 GND (power), 2 IN (power), 3 EN (in), 4 FLG (out), 5 OUT (power), 6 OUT (power), 7 TP (power)

## U_Q_AP2141SG-13
designator U?, comment AP2141SG-13
0.5A SINGLE CHANNEL CURRENT-LIMITED POWERSWITCH SOIC8; Manufacturer: Diodes; Number of Outputs: 1; Current Rating: 800mA; Max Supply Voltage: 5.5V; Min Supply Voltage: 2.7V; Interface: On/Off; Max Output Current: 500mA; On-State Resistance: 95mR; Fault Protection: Over Temperature,Reverse Current; Output Configuration: High Side; ComponentLink1URL: https://datasheet.ciiva.com/15108/getdatasheetpartid-661768-15108858.pdf; ComponentLink1Description: https://datasheet.ciiva.com/15108/getdatasheetpartid-661768-15108858.pdf; ComponentLink2URL: https://datasheet.ciiva.com/26882/ap2141fmg-7-26882490.pdf; ComponentLink2Description: https://datasheet.ciiva.com/26882/ap2141fmg-7-26882490.pdf; ComponentLink3URL: https://datasheet.ciiva.com/1962/ap2141-51-1962188.pdf; ComponentLink3Description: https://datasheet.ciiva.com/1962/ap2141-51-1962188.pdf; ComponentLink4URL: https://datasheet.ciiva.com/1962/ap2141-51-1962189.pdf; ComponentLink4Description: https://datasheet.ciiva.com/1962/ap2141-51-1962189.pdf; ComponentLink5URL: https://datasheet.ciiva.com/1962/ap2141-51-1962190.pdf; ComponentLink5Description: https://datasheet.ciiva.com/1962/ap2141-51-1962190.pdf; Supplier 1: Digi-Key; Supplier Part Number 1: AP2141SGDICT-ND; Manufacturer Part Number: AP2141SG-13; RoHS: Yes; Stock 1: 5779; Pricing 1: 1 = 0.70000, 10 = 0.61200, 100 = 0.46910, 500 = 0.37080, 1000 = 0.29664 (USD); Mount: Surface Mount; Case/Package: SOP; Number of Pins: 8; Weight: 0.030018oz; Min Operating Temperature: -40°C; Max Operating Temperature: 85°C; Package Quantity: 2500; Packaging: Tape and Reel; Voltage: 5.5V; Current: 500mA; Length: 5.3mm; Height: 1.5mm; Width: 4.1mm; Radiation Hardening: No; REACH SVHC: No SVHC; Lead Free: Lead Free; ComponentLink6URL: http://www.farnell.com/datasheets/608802.pdf?src-supplier=Farnell; ComponentLink6Description: http://www.farnell.com/datasheets/608802.pdf?src-supplier=Farnell; ComponentLink7URL: http://www.farnell.com/datasheets/608802.pdf?src-supplier=Element14; ComponentLink7Description: http://www.farnell.com/datasheets/608802.pdf?src-supplier=Element14; ComponentLink8URL: http://www.diodes.com/datasheets/AP2141_51.pdf?src-supplier=Avnet; ComponentLink8Description: http://www.diodes.com/datasheets/AP2141_51.pdf?src-supplier=Avnet; ComponentLink9URL: https://www.verical.com/server-webapp/html/getDatasheet?partID=670762&src-supplier=Verical; ComponentLink9Description: https://www.verical.com/server-webapp/html/getDatasheet?partID=670762&src-supplier=Verical; ComponentLink10URL: http://www.farnell.com/datasheets/2238439.pdf?src-supplier=Element14; ComponentLink10Description: http://www.farnell.com/datasheets/2238439.pdf?src-supplier=Element14; ComponentLink11URL: http://www.diodes.com/datasheets/AP2141_51.pdf?src-supplier=Future+Electronics; ComponentLink11Description: http://www.diodes.com/datasheets/AP2141_51.pdf?src-supplier=Future+Electronics; ComponentLink12URL: https://www.diodes.com/assets/Datasheets/AP2141-51.pdf?src-supplier=Digi-Key; ComponentLink12Description: https://www.diodes.com/assets/Datasheets/AP2141-51.pdf?src-supplier=Digi-Key
footprint SO8 (SOIC8, SO8, PG-DSO8-44, R-PDSO8-G8)
pins: 1 GND (power), 2 IN (power), 3 IN (power), 4 EN (in), 5 FLG (out), 6 OUT (power), 7 OUT (power)

## U_Q_AP2151FMG-7
designator U?, comment AP2151FMG-7
0.5A SINGLE CHANNEL CURRENT-LIMITED POWERSWITCH DFN EP T/R; Manufacturer: Diodes; Number of Outputs: 1; Max Supply Voltage: 5.5V; Min Supply Voltage: 2.7V; Interface: On/Off; Max Output Current: 500mA; On-State Resistance: 120mR; Fault Protection: Over Temperature,Reverse Current; Output Configuration: High Side; ComponentLink1URL: https://datasheet.ciiva.com/15108/getdatasheetpartid-661768-15108858.pdf; ComponentLink1Description: https://datasheet.ciiva.com/15108/getdatasheetpartid-661768-15108858.pdf; ComponentLink2URL: https://datasheet.ciiva.com/26882/ap2141fmg-7-26882490.pdf; ComponentLink2Description: https://datasheet.ciiva.com/26882/ap2141fmg-7-26882490.pdf; ComponentLink3URL: https://datasheet.ciiva.com/1962/ap2141-51-1962188.pdf; ComponentLink3Description: https://datasheet.ciiva.com/1962/ap2141-51-1962188.pdf; ComponentLink4URL: https://datasheet.ciiva.com/1962/ap2141-51-1962189.pdf; ComponentLink4Description: https://datasheet.ciiva.com/1962/ap2141-51-1962189.pdf; ComponentLink5URL: https://datasheet.ciiva.com/1962/ap2141-51-1962190.pdf; ComponentLink5Description: https://datasheet.ciiva.com/1962/ap2141-51-1962190.pdf; Supplier 1: Digi-Key; Supplier Part Number 1: AP2151FMG-7DIDKR-ND; Manufacturer Part Number: AP2151FMG-7; RoHS: Yes; Stock 1: 946; Pricing 1: 1 = 0.59000, 10 = 0.50200, 100 = 0.37490, 500 = 0.29458, 1000 = 0.22763 (USD); Mount: Surface Mount; Case/Package: SOT-26; Number of Pins: 6; Min Operating Temperature: -40°C; Max Operating Temperature: 85°C; Packaging: Tape and Reel; Package Quantity: 3000; Voltage: 5.5V; Current: 500mA; Length: 1.88mm; Height: 0.56mm; Width: 2.075mm; Radiation Hardening: No; Lead Free: Lead Free; ComponentLink6URL: https://www.verical.com/server-webapp/html/getDatasheet?partID=697404&src-supplier=Verical; ComponentLink6Description: https://www.verical.com/server-webapp/html/getDatasheet?partID=697404&src-supplier=Verical
footprint U-DFN2018-6
pins: 1 GND (power), 2 IN (power), 3 EN (in), 4 FLG (out), 5 OUT (power), 6 OUT (power), 7 TP (power)

## U_Q_AP2151SG-13
designator U?, comment AP2151SG-13
0.5A SINGLE CHANNEL CURRENT-LIMITED POWERSWITCH SOIC8; Manufacturer: Diodes; Manufacturer Part Number: AP2141FMG-7; Number of Outputs: 1; Current Rating: 800mA; Max Supply Voltage: 5.5V; Min Supply Voltage: 2.7V; Interface: On/Off; Max Output Current: 500mA; On-State Resistance: 115MR; Fault Protection: Over Temperature,Reverse Current; Output Configuration: High Side; ComponentLink1URL: https://datasheet.ciiva.com/15108/getdatasheetpartid-661768-15108858.pdf; ComponentLink1Description: https://datasheet.ciiva.com/15108/getdatasheetpartid-661768-15108858.pdf; ComponentLink2URL: https://datasheet.ciiva.com/26882/ap2141fmg-7-26882490.pdf; ComponentLink2Description: https://datasheet.ciiva.com/26882/ap2141fmg-7-26882490.pdf; ComponentLink3URL: https://datasheet.ciiva.com/1962/ap2141-51-1962188.pdf; ComponentLink3Description: https://datasheet.ciiva.com/1962/ap2141-51-1962188.pdf; ComponentLink4URL: https://datasheet.ciiva.com/1962/ap2141-51-1962189.pdf; ComponentLink4Description: https://datasheet.ciiva.com/1962/ap2141-51-1962189.pdf; ComponentLink5URL: https://datasheet.ciiva.com/1962/ap2141-51-1962190.pdf; ComponentLink5Description: https://datasheet.ciiva.com/1962/ap2141-51-1962190.pdf; Supplier 1: Digi-Key; Supplier Part Number 1: AP2141FMG-7DICT-ND; Supplier 2: Digi-Key; Supplier Part Number 2: AP2151SGDICT-ND; RoHS: Yes; Stock 2: 2151; Pricing 2: 1 = 0.77000, 10 = 0.68000, 100 = 0.52120, 500 = 0.41200, 1000 = 0.32960 (USD); Mount: Surface Mount; Case/Package: SOP; Number of Pins: 8; Weight: 0.030018oz; Min Operating Temperature: -40°C; Max Operating Temperature: 85°C; Packaging: Tape and Reel; Package Quantity: 2500; Voltage: 5.5V; Current: 500mA; Length: 4.95mm; Height: 1.5mm; Width: 3.95mm; Radiation Hardening: No; Lead Free: Lead Free; ComponentLink6URL: https://www.verical.com/server-webapp/html/getDatasheet?partID=661773&src-supplier=Verical; ComponentLink6Description: https://www.verical.com/server-webapp/html/getDatasheet?partID=661773&src-supplier=Verical; ComponentLink7URL: http://www.diodes.com/datasheets/AP2141_51.pdf?src-supplier=Avnet+Europe; ComponentLink7Description: http://www.diodes.com/datasheets/AP2141_51.pdf?src-supplier=Avnet+Europe; ComponentLink8URL: http://datasheet.iiic.cc/diodes/AP2151SG-13.pdf?src-supplier=IIIC; ComponentLink8Description: http://datasheet.iiic.cc/diodes/AP2151SG-13.pdf?src-supplier=IIIC
footprint SO8 (SOIC8, SO8, PG-DSO8-44, R-PDSO8-G8)
pins: 1 GND (power), 2 IN (power), 3 IN (power), 4 EN (in), 5 FLG (out), 6 OUT (power), 7 OUT (power)

## U_Q_AP21410
designator U?, comment AP21410
Current Limit SW 1-IN 1-OUT 2.7V to 5.5V 0.2A 6-Pin UDFN T/R; Manufacturer: Diodes; Manufacturer Part Number: AP21410FM-7; Supplier 1: Digi-Key; Supplier Part Number 1: AP21410FM-7DICT-ND; ComponentLink1URL: http://www.mouser.com/ds/2/115/AP21410_21510-740863.pdf; ComponentLink1Description: http://www.mouser.com/ds/2/115/AP21410_21510-740863.pdf; ComponentLink2URL: http://www.diodes.com/_files/datasheets/AP21410_21510.pdf; ComponentLink2Description: http://www.diodes.com/_files/datasheets/AP21410_21510.pdf
footprint U-DFN2018-6
pins: 1 GND (power), 2 IN (power), 3 EN (in), 4 NC, 5 OUT (power), 6 OUT (power), 7 TP (power)

## U_S_DRV5033AJQLPG
designator U?, comment DRV5033AJQLPG
TEXAS INSTRUMENTS         DRV5033AJQLPG            Hall Effect Sensor, Omnipolar, 30 mA, TO-226AA, 3 Pins, 2.5 V, 38 V; Supplier 1: Digi-Key; Supplier Part Number 1: 296-38520-ND; Manufacturer: Texas Instruments; Manufacturer Part Number: DRV5033AJQLPG; Case/Package: TO-226-3; ComponentLink1URL: http://components.arrow.com/part/dataview/72317363S1084610N9193; ComponentLink1Description: http://components.arrow.com/part/dataview/72317363S1084610N9193; ComponentLink2URL: http://www.ti.com/general/docs/lit/getliterature.tsp?genericPartNumber=DRV5033&&fileType=pdf; ComponentLink2Description: http://www.ti.com/general/docs/lit/getliterature.tsp?genericPartNumber=DRV5033&&fileType=pdf; ComponentLink3URL: http://www.ti.com/lit/ds/symlink/drv5023.pdf; ComponentLink3Description: http://www.ti.com/lit/ds/symlink/drv5023.pdf; ComponentLink4URL: http://www.farnell.com/datasheets/2026569.pdf; ComponentLink4Description: http://www.farnell.com/datasheets/2026569.pdf; ComponentLink5URL: http://www.farnell.com/datasheets/2019224.pdf; ComponentLink5Description: http://www.farnell.com/datasheets/2019224.pdf
footprint To-92 - Mirror
pins: 1 VCC, 2 GND, 3 OUT (out)

## U_S_DS18B20+
designator U?, comment DS18B20+
MAXIM INTEGRATED PRODUCTS         DS18B20+.             12bit,  0.5C 1 Wire Digital Thermometer with Programmable Resolution in TO-92-3 Package; Supplier 1: Digi-Key; Supplier Part Number 1: DS18B20+-ND; Manufacturer: Maxim; Manufacturer Part Number: DS18B20+; Case/Package: TO-92; ComponentLink1URL: https://datasheet.ciiva.com/14100/ds18b20-eng-tds-14100018.pdf; ComponentLink1Description: https://datasheet.ciiva.com/14100/ds18b20-eng-tds-14100018.pdf; ComponentLink2URL: https://datasheet.ciiva.com/23809/46379-23809287.pdf; ComponentLink2Description: https://datasheet.ciiva.com/23809/46379-23809287.pdf; ComponentLink3URL: https://datasheet.ciiva.com/19456/865936-19456316.pdf; ComponentLink3Description: https://datasheet.ciiva.com/19456/865936-19456316.pdf; ComponentLink4URL: https://datasheet.ciiva.com/26887/ds18b20-26887123.pdf; ComponentLink4Description: https://datasheet.ciiva.com/26887/ds18b20-26887123.pdf; ComponentLink5URL: https://datasheet.ciiva.com/46354/136-ds18b20-46354613.pdf; ComponentLink5Description: https://datasheet.ciiva.com/46354/136-ds18b20-46354613.pdf; ComponentLink6URL: https://datasheet.ciiva.com/16470/ds18b20-16470492.pdf; ComponentLink6Description: https://datasheet.ciiva.com/16470/ds18b20-16470492.pdf; ComponentLink7URL: https://datasheet.ciiva.com/2003/ds18b20-2003437.pdf; ComponentLink7Description: https://datasheet.ciiva.com/2003/ds18b20-2003437.pdf; ComponentLink8URL: https://datasheet.ciiva.com/3277/ds18b20-3277869.pdf; ComponentLink8Description: https://datasheet.ciiva.com/3277/ds18b20-3277869.pdf; ComponentLink9URL: https://datasheet.ciiva.com/5696/ds18s20-5696782.pdf; ComponentLink9Description: https://datasheet.ciiva.com/5696/ds18s20-5696782.pdf
footprint To-92
pins: 1 GND, 2 OUT (io), 3 VCC
text: ϑ

## U_S_PCF85063TP
designator U?, comment PCF85063TP
Real Time Clock Serial 8-Pin HWSON EP; Manufacturer: NXP Semiconductors; Manufacturer Part Number: PCF85063TP/1Z; Resolution: 12b; Operating Supply Current: 1.5mA; Output Type: Voltage,Digital; Min Supply Voltage: 3V; Max Supply Voltage: 5.5V; Number of Bits: 12; Output Current: 4mA; Nominal Supply Current: 1mA; Sensor Type: Temperature; Supplier 1: Digi-Key; Supplier Part Number 1: 568-10236-1-ND; ComponentLink1URL: https://datasheet.ciiva.com/24017/pcf85063tp-260518-24017188.pdf; ComponentLink1Description: https://datasheet.ciiva.com/24017/pcf85063tp-260518-24017188.pdf; ComponentLink2URL: https://datasheet.ciiva.com/29883/pcf85063tp-29883573.pdf; ComponentLink2Description: https://datasheet.ciiva.com/29883/pcf85063tp-29883573.pdf; Supplier 2: Digi-Key; Supplier Part Number 2: DS18B20+-ND; Stock 2: 16564; Pricing 2: 1=2.78, 10=2.72 (USD); Mount: Through Hole,PCB; Case/Package: TO-92; Number of Pins: 3; Weight: 0.001lb; Min Operating Temperature: -55°C; Max Operating Temperature: 125°C; Packaging: Rail/Tube; Package Quantity: 10; Interface: Serial; Max Supply Voltage (DC): 5.5V; Min Supply Voltage (DC): 3V; Termination: SMD/SMT; Length: 4.95mm; Height: 4.95mm; Width: 3.94mm; Radiation Hardening: No; Lead Free: Lead Free; REACH SVHC: No SVHC; ComponentLink3URL: https://datasheet.ciiva.com/14100/ds18b20-eng-tds-14100018.pdf; ComponentLink3Description: https://datasheet.ciiva.com/14100/ds18b20-eng-tds-14100018.pdf; ComponentLink4URL: https://datasheet.ciiva.com/23809/46379-23809287.pdf; ComponentLink4Description: https://datasheet.ciiva.com/23809/46379-23809287.pdf; ComponentLink5URL: https://datasheet.ciiva.com/19456/865936-19456316.pdf; ComponentLink5Description: https://datasheet.ciiva.com/19456/865936-19456316.pdf; ComponentLink6URL: https://datasheet.ciiva.com/26887/ds18b20-26887123.pdf; ComponentLink6Description: https://datasheet.ciiva.com/26887/ds18b20-26887123.pdf; ComponentLink7URL: https://datasheet.ciiva.com/46354/136-ds18b20-46354613.pdf; ComponentLink7Description: https://datasheet.ciiva.com/46354/136-ds18b20-46354613.pdf; ComponentLink8URL: https://datasheet.ciiva.com/16470/ds18b20-16470492.pdf; ComponentLink8Description: https://datasheet.ciiva.com/16470/ds18b20-16470492.pdf; ComponentLink9URL: https://datasheet.ciiva.com/2003/ds18b20-2003437.pdf; ComponentLink9Description: https://datasheet.ciiva.com/2003/ds18b20-2003437.pdf; ComponentLink10URL: https://datasheet.ciiva.com/3277/ds18b20-3277869.pdf; ComponentLink10Description: https://datasheet.ciiva.com/3277/ds18b20-3277869.pdf; ComponentLink11URL: https://datasheet.ciiva.com/5696/ds18s20-5696782.pdf; ComponentLink11Description: https://datasheet.ciiva.com/5696/ds18s20-5696782.pdf
footprint HWSON8 (SON, 8-Leads, Body 2.00x3.00mm, Pitch 0.50mm, Thermal Pad 1.50x1.59mm, IPC Medium Density)
pins: 1 OSCI (in), 2 OSCO (out), 3 nINT (out), 4 VSS (power), 5 SDA (io), 6 SCL (in), 7 CLKOUT (out), 8 VDD (power)